# Altium footprint library K53-66_E.PcbLib: 1 footprints
Each footprint in its own frame and in the unit in brackets; x right, y up, seen from the top. Pads: shape width x height; smd on the part's side, far side on the other; paste and mask are expansions set on the pad; w line width, h text height; cw(c..) or ccw(c..) is an arc to the next point about the centre after c.
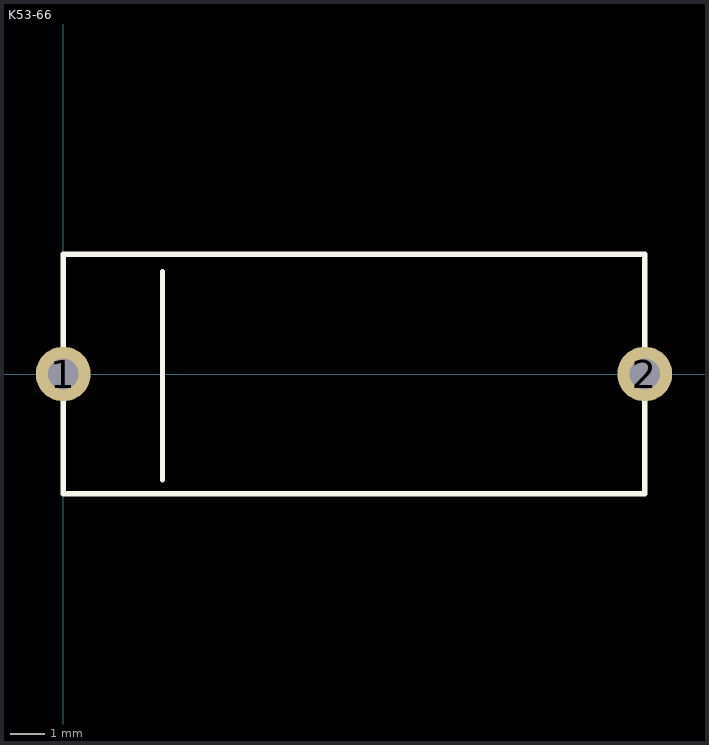
[diagram p0: the footprint, top view; thin cyan lines are the x and y axes]

## K53-66 [mm]
height 0.6
pads (2):
  round 1.6 hole 0.9: 1(0,0) 2(17,0)
Top Overlay:
  lines w0.15: 2.9,-3.1 2.9,3 ; 0,-3.5 0,3.5 17,3.5 17,-3.5 0,-3.5